# Altium footprint library Capacitor_THT.PcbLib: 378 footprints (part 1 of 24)
Each footprint in its own frame and in the unit in brackets; x right, y up, seen from the top. Pads: shape width x height; smd on the part's side, far side on the other; paste and mask are expansions set on the pad; w line width, h text height; cw(c..) or ccw(c..) is an arc to the next point about the centre after c.
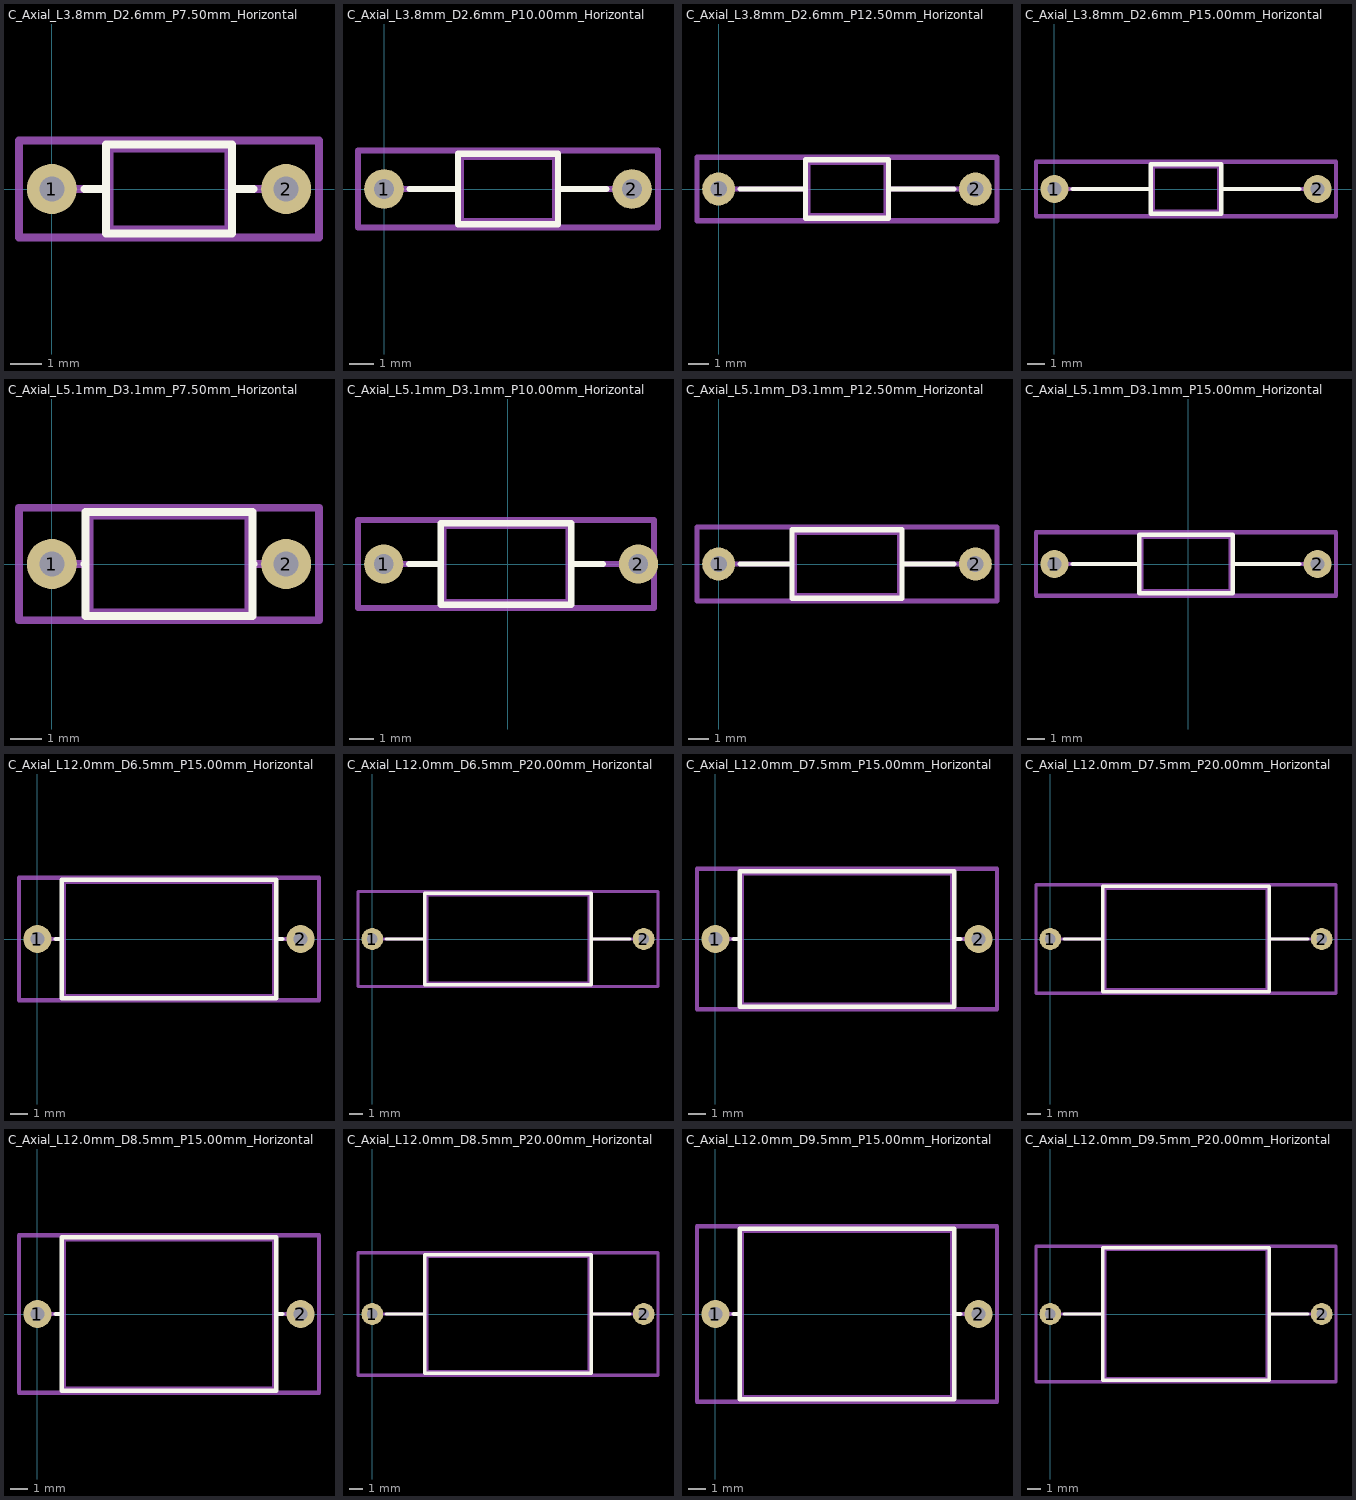
[diagram p0: the footprints below, top view; thin cyan lines are the x and y axes]

## C_Axial_L3.8mm_D2.6mm_P7.50mm_Horizontal [mm]
pads (2):
  round 1.6 hole 0.8: 1(0,0) 2(7.5,0)
F.SilkS:
  lines w0.254: 1.04,0 1.73,0 ; 5.77,0 6.46,0 ; 1.73,-1.42 1.73,1.42 5.77,1.42 5.77,-1.42 1.73,-1.42
Top Assembly:
  lines w0.254: 0,0 1.85,0 ; 5.65,0 7.5,0 ; 1.85,-1.3 1.85,1.3 5.65,1.3 5.65,-1.3 1.85,-1.3
  text "'.Designator'" at 0.674,-0.639 h0.76
Top Courtyard:
  lines w0.254: -1.05,-1.55 -1.05,1.55 8.55,1.55 8.55,-1.55 -1.05,-1.55
Top Designator:
  text ".Designator" at -3.868,-0.508 h1.52
3D body "C_Axial_L3.8mm_D2.6mm_P7.50mm_Horizontal.step": height 2.59, standoff -2, extent -0.248,-1.3 7.748,1.3

## C_Axial_L3.8mm_D2.6mm_P10.00mm_Horizontal [mm] "C_Axial_L3.8mm_D2.6mm_P10.00mm_Horizontal"
pads (2):
  round 1.6 hole 0.8: 1(0,0) 2(10,0)
F.SilkS:
  lines w0.254: 1.04,0 2.98,0 ; 7.02,0 8.96,0 ; 2.98,-1.42 2.98,1.42 7.02,1.42 7.02,-1.42 2.98,-1.42
Top Assembly:
  lines w0.254: 0,0 3.1,0 ; 6.9,0 10,0 ; 3.1,-1.3 3.1,1.3 6.9,1.3 6.9,-1.3 3.1,-1.3
  text "'.Designator'" at 1.924,-0.639 h0.76
Top Courtyard:
  lines w0.254: -1.05,-1.55 -1.05,1.55 11.05,1.55 11.05,-1.55 -1.05,-1.55
Top Designator:
  text ".Designator" at -2.618,-0.508 h1.52
3D body "C_Axial_L3.8mm_D2.6mm_P10.00mm_Horizontal.step": height 2.59, standoff -2, extent -0.422,-1.203 10.074,1.397

## C_Axial_L3.8mm_D2.6mm_P12.50mm_Horizontal [mm] "C_Axial_L3.8mm_D2.6mm_P12.50mm_Horizontal"
pads (2):
  round 1.6 hole 0.8: 1(0,0) 2(12.5,0)
F.SilkS:
  lines w0.254: 1.04,0 4.23,0 ; 8.27,0 11.46,0 ; 4.23,-1.42 8.27,-1.42 8.27,1.42 4.23,1.42 4.23,-1.42
Top Assembly:
  lines w0.254: 0,0 4.35,0 ; 8.15,0 12.5,0 ; 4.35,-1.3 8.15,-1.3 8.15,1.3 4.35,1.3 4.35,-1.3
  text "'.Designator'" at 3.174,-0.639 h0.76
Top Courtyard:
  lines w0.254: -1.05,-1.55 13.55,-1.55 13.55,1.55 -1.05,1.55 -1.05,-1.55
Top Designator:
  text ".Designator" at -1.368,-0.508 h1.52
3D body "C_Axial_L3.8mm_D2.6mm_P12.50mm_Horizontal.step": height 2.59, standoff -2, extent -0.402,-1.33 12.594,1.27

## C_Axial_L3.8mm_D2.6mm_P15.00mm_Horizontal [mm] "C_Axial_L3.8mm_D2.6mm_P15.00mm_Horizontal"
pads (2):
  round 1.6 hole 0.8: 1(0,0) 2(15,0)
F.SilkS:
  lines w0.254: 1.04,0 5.48,0 ; 9.52,0 13.96,0 ; 5.48,-1.42 9.52,-1.42 9.52,1.42 5.48,1.42 5.48,-1.42
Top Assembly:
  lines w0.254: 0,0 5.6,0 ; 9.4,0 15,0 ; 5.6,-1.3 9.4,-1.3 9.4,1.3 5.6,1.3 5.6,-1.3
  text "'.Designator'" at 4.424,-0.639 h0.76
Top Courtyard:
  lines w0.254: -1.05,-1.55 16.05,-1.55 16.05,1.55 -1.05,1.55 -1.05,-1.55
Top Designator:
  text ".Designator" at -0.118,-0.508 h1.52
3D body "C_Axial_L3.8mm_D2.6mm_P15.00mm_Horizontal.step": height 2.59, standoff -2, extent -0.248,-1.3 15.248,1.3

## C_Axial_L5.1mm_D3.1mm_P7.50mm_Horizontal [mm] "C_Axial_L5.1mm_D3.1mm_P7.50mm_Horizontal"
pads (2):
  round 1.6 hole 0.8: 1(0,0) 2(7.5,0)
F.SilkS:
  lines w0.254: 1.04,0 1.08,0 ; 6.42,0 6.46,0 ; 1.08,-1.67 1.08,1.67 6.42,1.67 6.42,-1.67 1.08,-1.67
Top Assembly:
  lines w0.254: 0,0 1.2,0 ; 6.3,0 7.5,0 ; 1.2,-1.55 1.2,1.55 6.3,1.55 6.3,-1.55 1.2,-1.55
  text "'.Designator'" at -0.297,-0.84 h1
Top Courtyard:
  lines w0.254: -1.05,-1.8 -1.05,1.8 8.55,1.8 8.55,-1.8 -1.05,-1.8
Top Designator:
  text ".Designator" at -3.868,-0.508 h1.52
3D body "C_Axial_L5.1mm_D3.1mm_P7.50mm_Horizontal.step": height 3.09, standoff -2, extent -0.248,-1.55 7.748,1.55

## C_Axial_L5.1mm_D3.1mm_P10.00mm_Horizontal [mm] "C_Axial_L5.1mm_D3.1mm_P10.00mm_Horizontal"
pads (2):
  round 1.6 hole 0.8: 1(-5.08,0) 2(5.334,0)
F.SilkS:
  lines w0.254: -4.04,0 -2.75,0 ; 2.59,0 3.88,0 ; -2.75,-1.67 2.59,-1.67 2.59,1.67 -2.75,1.67 -2.75,-1.67
Top Assembly:
  lines w0.254: -5.08,0 -2.63,0 ; 2.47,0 4.92,0 ; -2.63,-1.55 2.47,-1.55 2.47,1.55 -2.63,1.55 -2.63,-1.55
  text "'.Designator'" at -3.77,-0.357 h1
Top Courtyard:
  lines w0.254: -6.13,-1.8 5.97,-1.8 5.97,1.8 -6.13,1.8 -6.13,-1.8
Top Designator:
  text ".Designator" at -7.618,-0.508 h1.52
3D body "C_Axial_L5.1mm_D3.1mm_P10.00mm_Horizontal.step": height 3.09, standoff -2, extent -5.289,-1.55 5.207,1.55

## C_Axial_L5.1mm_D3.1mm_P12.50mm_Horizontal [mm] "C_Axial_L5.1mm_D3.1mm_P12.50mm_Horizontal"
pads (2):
  round 1.6 hole 0.8: 1(0,0) 2(12.5,0)
F.SilkS:
  lines w0.254: 1.04,0 3.58,0 ; 8.92,0 11.46,0 ; 3.58,-1.67 3.58,1.67 8.92,1.67 8.92,-1.67 3.58,-1.67
Top Assembly:
  lines w0.254: 0,0 3.7,0 ; 8.8,0 12.5,0 ; 3.7,-1.55 3.7,1.55 8.8,1.55 8.8,-1.55 3.7,-1.55
  text "'.Designator'" at 2.203,-0.84 h1
Top Courtyard:
  lines w0.254: -1.05,-1.8 -1.05,1.8 13.55,1.8 13.55,-1.8 -1.05,-1.8
Top Designator:
  text ".Designator" at -1.368,-0.508 h1.52
3D body "C_Axial_L5.1mm_D3.1mm_P12.50mm_Horizontal.step": height 3.09, standoff -2, extent -0.248,-1.55 12.748,1.55

## C_Axial_L5.1mm_D3.1mm_P15.00mm_Horizontal [mm] "C_Axial_L5.1mm_D3.1mm_P12.50mm_Horizontal"
pads (2):
  round 1.6 hole 0.8: 1(-7.62,0) 2(7.38,0)
F.SilkS:
  lines w0.254: -6.58,0 -2.79,0 ; 2.55,0 6.34,0 ; -2.79,-1.67 2.55,-1.67 2.55,1.67 -2.79,1.67 -2.79,-1.67
Top Assembly:
  lines w0.254: -7.62,0 -2.67,0 ; 2.43,0 7.38,0 ; -2.67,-1.55 2.43,-1.55 2.43,1.55 -2.67,1.55 -2.67,-1.55
  text "'.Designator'" at -3.897,-0.357 h1
Top Courtyard:
  lines w0.254: -8.67,-1.8 8.43,-1.8 8.43,1.8 -8.67,1.8 -8.67,-1.8
Top Designator:
  text ".Designator" at -7.618,-0.508 h1.52

## C_Axial_L12.0mm_D6.5mm_P15.00mm_Horizontal [mm]
pads (2):
  round 1.6 hole 0.8: 1(0,0) 2(15,0)
F.SilkS:
  lines w0.254: 1.04,0 1.38,0 ; 13.62,0 13.96,0 ; 1.38,-3.37 13.62,-3.37 13.62,3.37 1.38,3.37 1.38,-3.37
Top Assembly:
  lines w0.254: 0,0 1.5,0 ; 13.5,0 15,0 ; 1.5,-3.25 13.5,-3.25 13.5,3.25 1.5,3.25 1.5,-3.25
  text "'.Designator'" at 3.453,-0.84 h1
Top Courtyard:
  lines w0.254: -1.05,-3.5 16.05,-3.5 16.05,3.5 -1.05,3.5 -1.05,-3.5
Top Designator:
  text ".Designator" at -0.118,-0.508 h1.52

## C_Axial_L12.0mm_D6.5mm_P20.00mm_Horizontal [mm]
pads (2):
  round 1.6 hole 0.8: 1(0,0) 2(20,0)
F.SilkS:
  lines w0.254: 1.04,0 3.88,0 ; 16.12,0 18.96,0 ; 3.88,-3.37 16.12,-3.37 16.12,3.37 3.88,3.37 3.88,-3.37
Top Assembly:
  lines w0.254: 0,0 4,0 ; 16,0 20,0 ; 4,-3.25 16,-3.25 16,3.25 4,3.25 4,-3.25
  text "'.Designator'" at 5.953,-0.84 h1
Top Courtyard:
  lines w0.254: -1.05,-3.5 21.05,-3.5 21.05,3.5 -1.05,3.5 -1.05,-3.5
Top Designator:
  text ".Designator" at 2.382,-0.508 h1.52

## C_Axial_L12.0mm_D7.5mm_P15.00mm_Horizontal [mm]
pads (2):
  round 1.6 hole 0.8: 1(0,0) 2(15,0)
F.SilkS:
  lines w0.254: 1.04,0 1.38,0 ; 13.62,0 13.96,0 ; 1.38,-3.87 13.62,-3.87 13.62,3.87 1.38,3.87 1.38,-3.87
Top Assembly:
  lines w0.254: 0,0 1.5,0 ; 13.5,0 15,0 ; 1.5,-3.75 13.5,-3.75 13.5,3.75 1.5,3.75 1.5,-3.75
  text "'.Designator'" at 3.453,-0.84 h1
Top Courtyard:
  lines w0.254: -1.05,-4 16.05,-4 16.05,4 -1.05,4 -1.05,-4
Top Designator:
  text ".Designator" at -0.118,-0.508 h1.52

## C_Axial_L12.0mm_D7.5mm_P20.00mm_Horizontal [mm]
pads (2):
  round 1.6 hole 0.8: 1(0,0) 2(20,0)
F.SilkS:
  lines w0.254: 1.04,0 3.88,0 ; 16.12,0 18.96,0 ; 3.88,-3.87 16.12,-3.87 16.12,3.87 3.88,3.87 3.88,-3.87
Top Assembly:
  lines w0.254: 0,0 4,0 ; 16,0 20,0 ; 4,-3.75 16,-3.75 16,3.75 4,3.75 4,-3.75
  text "'.Designator'" at 5.953,-0.84 h1
Top Courtyard:
  lines w0.254: -1.05,-4 21.05,-4 21.05,4 -1.05,4 -1.05,-4
Top Designator:
  text ".Designator" at 2.382,-0.508 h1.52

## C_Axial_L12.0mm_D8.5mm_P15.00mm_Horizontal [mm]
pads (2):
  round 1.6 hole 0.8: 1(0,0) 2(15,0)
F.SilkS:
  lines w0.254: 1.04,0 1.38,0 ; 13.62,0 13.96,0 ; 1.38,-4.37 13.62,-4.37 13.62,4.37 1.38,4.37 1.38,-4.37
Top Assembly:
  lines w0.254: 0,0 1.5,0 ; 13.5,0 15,0 ; 1.5,-4.25 13.5,-4.25 13.5,4.25 1.5,4.25 1.5,-4.25
  text "'.Designator'" at 3.453,-0.84 h1
Top Courtyard:
  lines w0.254: -1.05,-4.5 16.05,-4.5 16.05,4.5 -1.05,4.5 -1.05,-4.5
Top Designator:
  text ".Designator" at -0.118,-0.508 h1.52

## C_Axial_L12.0mm_D8.5mm_P20.00mm_Horizontal [mm]
pads (2):
  round 1.6 hole 0.8: 1(0,0) 2(20,0)
F.SilkS:
  lines w0.254: 1.04,0 3.88,0 ; 16.12,0 18.96,0 ; 3.88,-4.37 16.12,-4.37 16.12,4.37 3.88,4.37 3.88,-4.37
Top Assembly:
  lines w0.254: 0,0 4,0 ; 16,0 20,0 ; 4,-4.25 16,-4.25 16,4.25 4,4.25 4,-4.25
  text "'.Designator'" at 5.953,-0.84 h1
Top Courtyard:
  lines w0.254: -1.05,-4.5 21.05,-4.5 21.05,4.5 -1.05,4.5 -1.05,-4.5
Top Designator:
  text ".Designator" at 2.382,-0.508 h1.52

## C_Axial_L12.0mm_D9.5mm_P15.00mm_Horizontal [mm]
pads (2):
  round 1.6 hole 0.8: 1(0,0) 2(15,0)
F.SilkS:
  lines w0.254: 1.04,0 1.38,0 ; 13.62,0 13.96,0 ; 1.38,-4.87 13.62,-4.87 13.62,4.87 1.38,4.87 1.38,-4.87
Top Assembly:
  lines w0.254: 0,0 1.5,0 ; 13.5,0 15,0 ; 1.5,-4.75 13.5,-4.75 13.5,4.75 1.5,4.75 1.5,-4.75
  text "'.Designator'" at 3.453,-0.84 h1
Top Courtyard:
  lines w0.254: -1.05,-5 16.05,-5 16.05,5 -1.05,5 -1.05,-5
Top Designator:
  text ".Designator" at -0.118,-0.508 h1.52

## C_Axial_L12.0mm_D9.5mm_P20.00mm_Horizontal [mm]
pads (2):
  round 1.6 hole 0.8: 1(0,0) 2(20,0)
F.SilkS:
  lines w0.254: 1.04,0 3.88,0 ; 16.12,0 18.96,0 ; 3.88,-4.87 16.12,-4.87 16.12,4.87 3.88,4.87 3.88,-4.87
Top Assembly:
  lines w0.254: 0,0 4,0 ; 16,0 20,0 ; 4,-4.75 16,-4.75 16,4.75 4,4.75 4,-4.75
  text "'.Designator'" at 5.953,-0.84 h1
Top Courtyard:
  lines w0.254: -1.05,-5 21.05,-5 21.05,5 -1.05,5 -1.05,-5
Top Designator:
  text ".Designator" at 2.382,-0.508 h1.52